# EAGLE library part PSOC_5LP_PROTOTIYPING_KIT (library mylib2)
PSoC 5LP Prototyping Kit
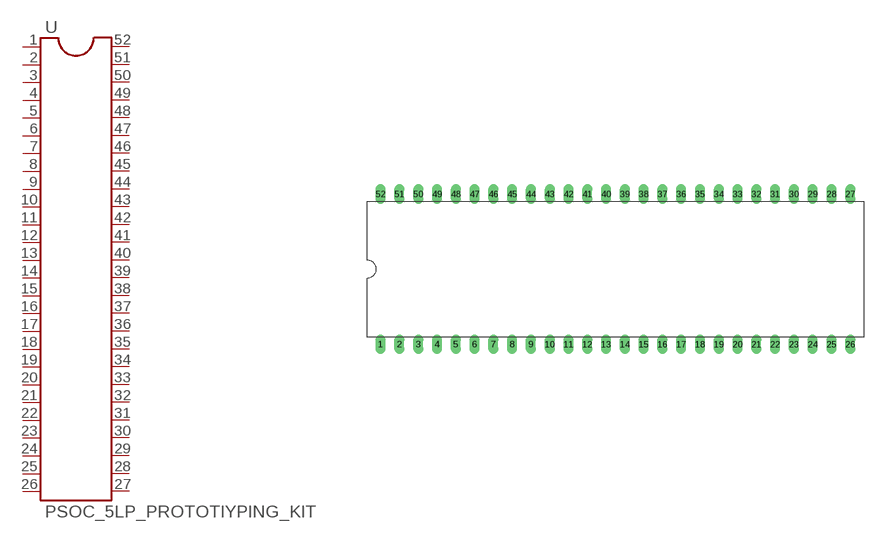
[diagram p2: symbol with the pads of DIL52-8; footprint DIL52-8]

Designator prefix -

## PSOC_5LP_PROTOTIYPING_KIT  [DIL52-8]
1  1  pas
2  2  pas
3  3  pas
4  4  pas
5  5  pas
6  6  pas
7  7  pas
8  8  pas
9  9  pas
10  10  pas
11  11  pas
12  12  pas
13  13  pas
14  14  pas
15  15  pas
16  16  pas
17  17  pas
18  18  pas
19  19  pas
20  20  pas
21  21  pas
22  22  pas
23  23  pas
24  24  pas
25  25  pas
26  26  pas
27  27  pas
28  28  pas
29  29  pas
30  30  pas
31  31  pas
32  32  pas
33  33  pas
34  34  pas
35  35  pas
36  36  pas
37  37  pas
38  38  pas
39  39  pas
40  40  pas
41  41  pas
42  42  pas
43  43  pas
44  44  pas
45  45  pas
46  46  pas
47  47  pas
48  48  pas
49  49  pas
50  50  pas
51  51  pas
52  52  pas

## Footprint DIL52-8 (pad centres in mm)
drill 0.813 long: 1 -31.75,-11.43; 2 -29.21,-11.43; 3 -26.67,-11.43; 4 -24.13,-11.43; 5 -21.59,-11.43; 6 -19.05,-11.43; 7 -16.51,-11.43; 8 -13.97,-11.43; 9 -11.43,-11.43; 10 -8.89,-11.43; 11 -6.35,-11.43; 12 -3.81,-11.43; 13 -1.27,-11.43; 14 1.27,-11.43; 15 3.81,-11.43; 16 6.35,-11.43; 17 8.89,-11.43; 18 11.43,-11.43; 19 13.97,-11.43; 20 16.51,-11.43; 21 19.05,-11.43; 22 21.59,-11.43; 23 24.13,-11.43; 24 26.67,-11.43; 25 29.21,-11.43; 26 31.75,-11.43; 27 31.75,8.89; 28 29.21,8.89; 29 26.67,8.89; 30 24.13,8.89; 31 21.59,8.89; 32 19.05,8.89; 33 16.51,8.89; 34 13.97,8.89; 35 11.43,8.89; 36 8.89,8.89; 37 6.35,8.89; 38 3.81,8.89; 39 1.27,8.89; 40 -1.27,8.89; 41 -3.81,8.89; 42 -6.35,8.89; 43 -8.89,8.89; 44 -11.43,8.89; 45 -13.97,8.89; 46 -16.51,8.89; 47 -19.05,8.89; 48 -21.59,8.89; 49 -24.13,8.89; 50 -26.67,8.89; 51 -29.21,8.89; 52 -31.75,8.89